# Altium schematic symbol library Testing.SchLib: 6 symbols
Pins are listed as number, name and electrical type; pins without a type are passive.

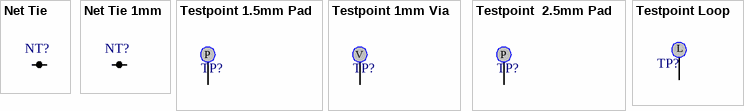
[diagram p0: symbols Net Tie to Testpoint Loop]

## Net Tie
designator NT?  (value not drawn)  (net tie)
Net Tie Testpoint w/ Hook; MFG_PN: 5015; MFG: KEYSTONE; LOAD: NL
footprint Net Tie
pins: 1, 2

## Net Tie 1mm
designator NT?  (value not drawn)  (net tie, no BOM)
Net Tie Testpoint w/ Hook
footprint Net Tie 1mm
pins: 1, 2

## Testpoint 1.5mm Pad
designator TP?, comment NONE  (value not drawn)
1.5mm Testpoint
footprint TESTPOINT - 1.5mm Round Pad
pins: 1
text: P

## Testpoint 1mm Via
designator TP?, comment TP  (value not drawn)
1mm Via
footprint 1mm Via
pins: 1
text: V

## Testpoint  2.5mm Pad
designator TP?, comment TP  (value not drawn)
2.5mm Testpoint
footprint TESTPOINT - 2.5mm Round Pad
pins: 1
text: P

## Testpoint Loop
designator TP?, comment 5001  (value not drawn)
MFG: KEYSTONE; MFG_PN: 5001
footprint 5001 Testpoint
pins: 1
text: L